# Altium footprint library FP-SMD-Semiconductors.PcbLib: 47 footprints (part 2 of 3)
Each footprint in its own frame and in the unit in brackets; x right, y up, seen from the top. Pads: shape width x height; smd on the part's side, far side on the other; paste and mask are expansions set on the pad; w line width, h text height; cw(c..) or ccw(c..) is an arc to the next point about the centre after c.
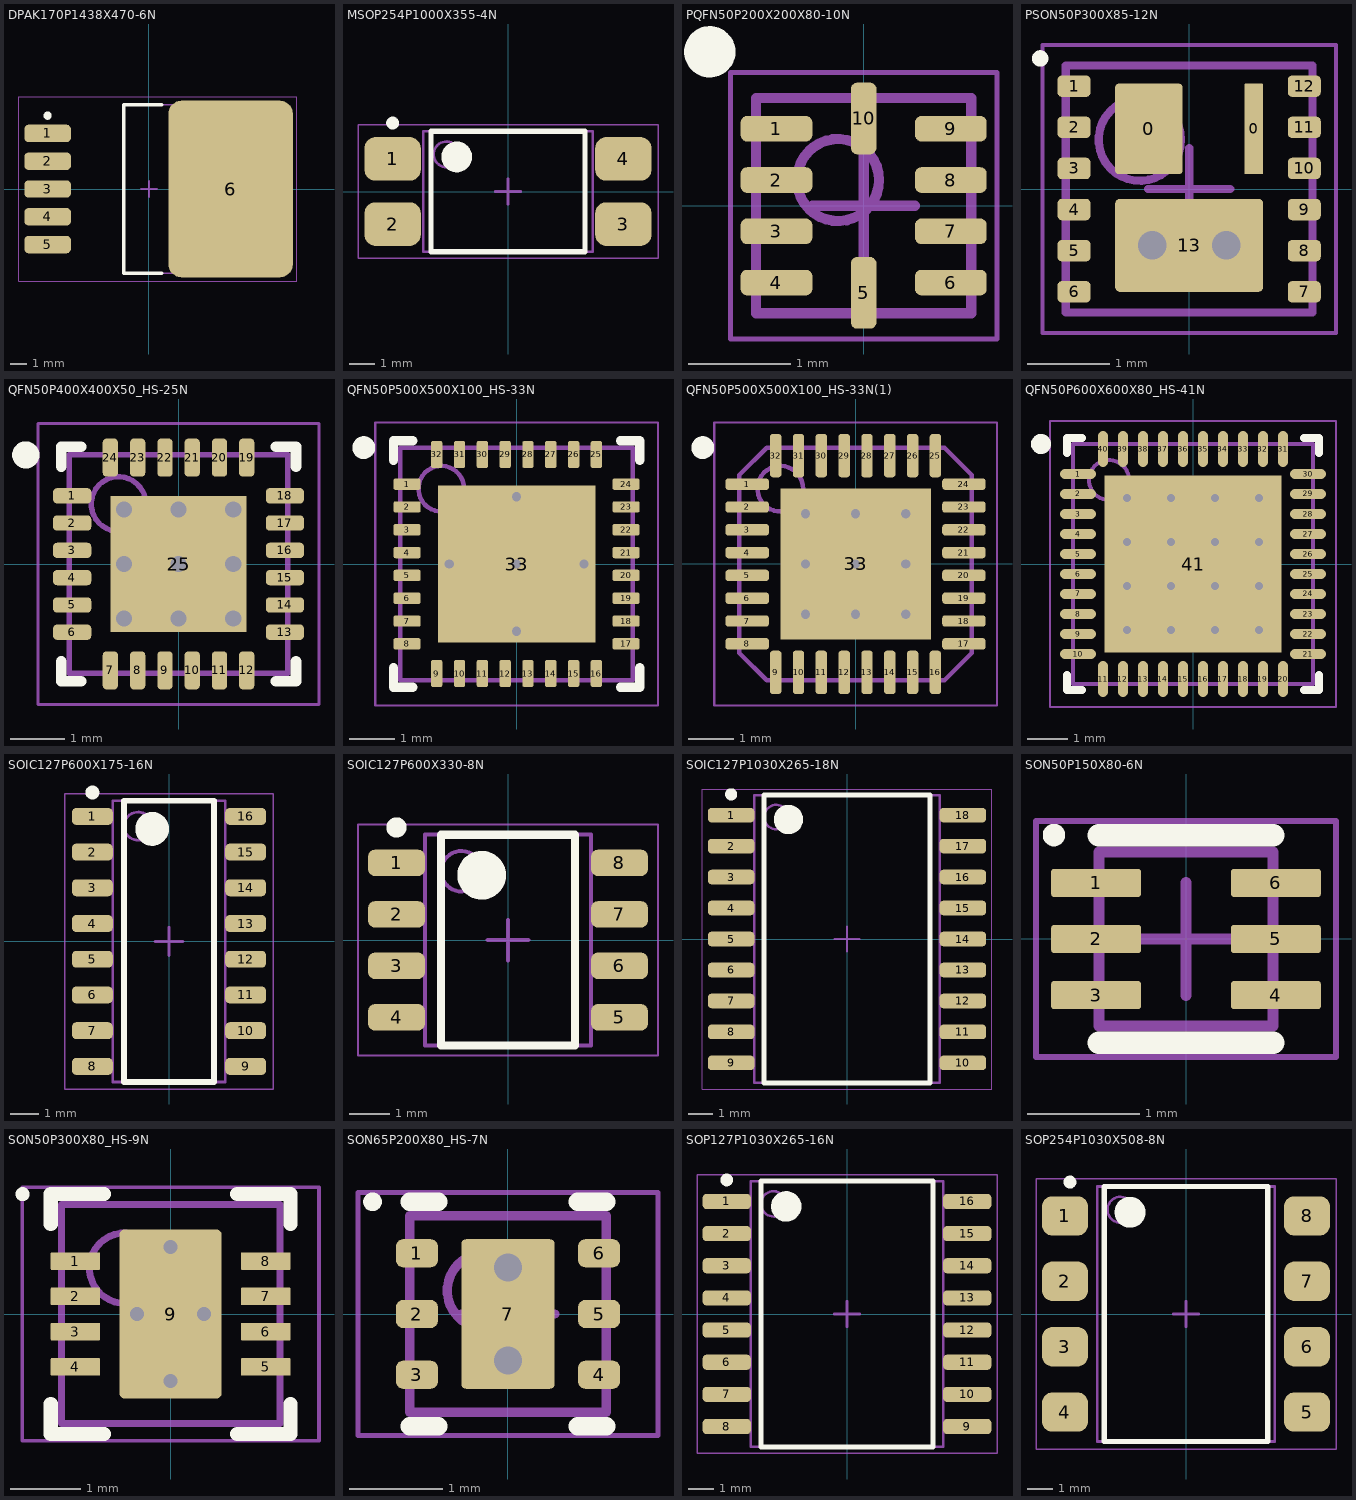
[diagram p1: the footprints below, top view; thin cyan lines are the x and y axes]

## DPAK170P1438X470-6N [mm] "D2-PAK, 6-Pads, Body 7/45x8/51mm (max), IPC Medium Density"
height 4.7
pads (6):
  rrect50% 2.85x1.07 smd: 1(-6.2,3.4) 2(-6.2,1.7) 3(-6.2,0) 4(-6.2,-1.7) 5(-6.2,-3.4)
  rrect20% 7.6x10.8 smd: 6(5,0)
Top Overlay:
  circle w0.25: c-6.2,4.485 r0.125
  lines w0.2: 0.8,-5.15 -1.55,-5.15 -1.55,5.15 0.8,5.15
Top Assembly:
  lines w0.1: -1.55,-5.15 7.15,-5.15 7.15,5.15 -1.55,5.15 -1.55,-5.15
  text "'.Designator'" at 0.254,0.762 h1.52
Top Courtyard:
  lines w0.05: -7.95,-5.65 9.05,-5.65 9.05,5.65 -7.95,5.65 -7.95,-5.65
  lines w0.1: -0.5,0 0.5,0 ; 0,-0.5 0,0.5
3D body "TO263-5-1.STEP": height 4.22, standoff 0, extent -6.901,-4.912 7.701,4.91

## MSOP254P1000X355-4N [mm] "SOP, 4-Leads, Body 4/58x6/50mm, Pitch 2/54mm, IPC Medium Density"
height 3.55
pads (4):
  rrect50% 2.2x1.7 smd: 1(-4.5,1.27) 2(-4.5,-1.27) 3(4.5,-1.27) 4(4.5,1.27)
Top Overlay:
  circle w0.25: c-4.5,2.67 r0.125
  circle w0.6: c-2,1.35 r0.3
  lines w0.2: -3,-2.35 -3,2.35 3,2.35 3,-2.35 -3,-2.35
Top Assembly:
  circle w0.1: c-2.4,1.45 r0.5
  lines w0.1: -3.3,-2.35 -3.3,2.35 3.3,2.35 3.3,-2.35 -3.3,-2.35
  text "'.Designator'" at 0.254,0.762 h1.52
Top Courtyard:
  lines w0.05: -5.85,-2.6 -5.85,2.6 5.85,2.6 5.85,-2.6 -5.85,-2.6
  lines w0.1: -0.5,0 0.5,0 ; 0,-0.5 0,0.5
3D body "SOP254P1000X355-4N.step": height 3.55, standoff 0, extent -5,-2.35 5,2.35

## PQFN50P200X200X80-10N [mm] "PQFN, 10-Leads, Body 2/00x2/00mm, Pitch 0/50mm, IPC Medium Density"
height 0.8
pads (10):
  rrect50% 0.7x0.25 smd: 1(-0.85,0.75) 2(-0.85,0.25) 3(-0.85,-0.25) 4(-0.85,-0.75) 6(0.85,-0.75) 7(0.85,-0.25) 8(0.85,0.25) 9(0.85,0.75)
  rrect50% 0.25x0.7 smd: 5(0,-0.85) 10(0,0.85)
Top Overlay:
  circle w0.25: c-1.5,1.5 r0.125
Top Assembly:
  circle w0.1: c-0.25,0.25 r0.4
  lines w0.1: -1.05,-1.05 -1.05,1.05 1.05,1.05 1.05,-1.05 -1.05,-1.05
  text "'.Designator'" at 0.254,0.762 h1.52
Top Courtyard:
  lines w0.05: -1.3,-1.3 -1.3,1.3 1.3,1.3 1.3,-1.3 -1.3,-1.3
  lines w0.1: -0.5,0 0.5,0 ; 0,-0.5 0,0.5
3D body "PQFN50P200X200X80-10N.step": height 0.8, standoff 0, extent -1.05,-1.05 1.05,1.05

## PSON50P300X85-12N [mm] "PSON, 12-Leads, Body 3/00x3/00mm, Pitch 0/50mm, IPC Medium Density"
height 0.85
pads (15):
  rrect10% 0.82x1.1 smd: 0(-0.49,0.73)
  rrect10% 0.23x1.1 smd: 0(0.785,0.73)
  rrect40% 0.4x0.26 smd: 1(-1.4,1.25) 2(-1.4,0.75) 3(-1.4,0.25) 4(-1.4,-0.25) 5(-1.4,-0.75) 6(-1.4,-1.25) 7(1.4,-1.25) 8(1.4,-0.75) 9(1.4,-0.25) 10(1.4,0.25) 11(1.4,0.75) 12(1.4,1.25)
  rrect10% 1.8x1.13 smd paste+0: 13(0,-0.685)
via 0.45,-0.685 diameter 0.5 hole 0.35
via -0.45,-0.685 diameter 0.5 hole 0.35
Top Overlay:
  circle w0.1: c-1.812,1.587 r0.05
Top Assembly:
  circle w0.1: c-0.6,0.6 r0.5
  lines w0.1: -1.5,-1.5 1.5,-1.5 1.5,1.5 -1.5,1.5 -1.5,-1.5
  text "'.Designator'" at 0.254,0.762 h1.52
Top Courtyard:
  lines w0.05: -1.785,-1.75 1.785,-1.75 1.785,1.75 -1.785,1.75 -1.785,-1.75
  lines w0.1: -0.5,0 0.5,0 ; 0,-0.5 0,0.5
3D body "PSON50P300X85-12N.step": height 0.85, standoff 0, extent -1.501,-1.5 1.501,1.5

## QFN50P400X400X50_HS-25N [mm] "QFN, 24-Leads, Body 4/00x4/00mm, Pitch 0/50mm, Thermal Pad 2/50x2/50mm, IPC Medium Density"
height 0.5
pads (25):
  rrect50% 0.7x0.28 smd: 1(-1.95,1.25) 2(-1.95,0.75) 3(-1.95,0.25) 4(-1.95,-0.25) 5(-1.95,-0.75) 6(-1.95,-1.25) 13(1.95,-1.25) 14(1.95,-0.75) 15(1.95,-0.25) 16(1.95,0.25) 17(1.95,0.75) 18(1.95,1.25)
  rrect50% 0.28x0.7 smd: 7(-1.25,-1.95) 8(-0.75,-1.95) 9(-0.25,-1.95) 10(0.25,-1.95) 11(0.75,-1.95) 12(1.25,-1.95) 19(1.25,1.95) 20(0.75,1.95) 21(0.25,1.95) 22(-0.25,1.95) 23(-0.75,1.95) 24(-1.25,1.95)
  rect 2.5x2.5 smd: 25(0,0)
via 0,0 diameter 0.5 hole 0.3
via 0,1 diameter 0.5 hole 0.3
via -1,0 diameter 0.5 hole 0.3
via 0,-1 diameter 0.5 hole 0.3
via 1,0 diameter 0.5 hole 0.3
via 1,1 diameter 0.5 hole 0.3
via -1,1 diameter 0.5 hole 0.3
via -1,-1 diameter 0.5 hole 0.3
via 1,-1 diameter 0.5 hole 0.3
Top Overlay:
  circle w0.25: c-2.8,2 r0.125
  lines w0.2: -2.15,-1.79 -2.15,-2.15 -1.79,-2.15 ; -2.15,1.79 -2.15,2.15 -1.79,2.15 ; 1.79,-2.15 2.15,-2.15 2.15,-1.79 ; 1.79,2.15 2.15,2.15 2.15,1.79
Top Assembly:
  circle w0.1: c-1.1,1.1 r0.5
  lines w0.1: -2,-2 -2,2 2,2 2,-2 -2,-2
  text "'.Designator'" at 0.254,0.762 h1.52
Top Courtyard:
  lines w0.05: -2.575,-2.575 -2.575,2.575 2.575,2.575 2.575,-2.575 -2.575,-2.575
  lines w0.1: -0.5,0 0.5,0 ; 0,-0.5 0,0.5
3D body "QFN50P400X400X50_HS-25N.step": height 0.5, standoff 0, extent -2.001,-2.001 2.001,2.001

## QFN50P500X500X100_HS-33N [mm] "QFN, 32-Leads, Body 5/00x5/00mm, Pitch 0/50mm, Thermal Pad 3/45x3/45mm, IPC Medium Density"
height 1
pads (33):
  rrect40% 0.6x0.25 smd: 1(-2.4,1.75) 2(-2.4,1.25) 3(-2.4,0.75) 4(-2.4,0.25) 5(-2.4,-0.25) 6(-2.4,-0.75) 7(-2.4,-1.25) 8(-2.4,-1.75) 17(2.4,-1.75) 18(2.4,-1.25) 19(2.4,-0.75) 20(2.4,-0.25) 21(2.4,0.25) 22(2.4,0.75) 23(2.4,1.25) 24(2.4,1.75)
  rrect40% 0.25x0.6 smd: 9(-1.75,-2.4) 10(-1.25,-2.4) 11(-0.75,-2.4) 12(-0.25,-2.4) 13(0.25,-2.4) 14(0.75,-2.4) 15(1.25,-2.4) 16(1.75,-2.4) 25(1.75,2.4) 26(1.25,2.4) 27(0.75,2.4) 28(0.25,2.4) 29(-0.25,2.4) 30(-0.75,2.4) 31(-1.25,2.4) 32(-1.75,2.4)
  rect 3.45x3.45 smd: 33(0,0)
via 0,0 diameter 0.5 hole 0.2
via 1.475,0 diameter 0.5 hole 0.2
via -1.475,0 diameter 0.5 hole 0.2
via 0,1.475 diameter 0.5 hole 0.2
via 0,-1.475 diameter 0.5 hole 0.2
Top Overlay:
  circle w0.25: c-3.35,2.55 r0.125
  lines w0.2: -2.7,-2.275 -2.7,-2.7 -2.275,-2.7 ; -2.7,2.275 -2.7,2.7 -2.275,2.7 ; 2.275,-2.7 2.7,-2.7 2.7,-2.275 ; 2.275,2.7 2.7,2.7 2.7,2.275
Top Assembly:
  circle w0.1: c-1.65,1.65 r0.5
  lines w0.1: -2.55,-2.55 -2.55,2.55 2.55,2.55 2.55,-2.55 -2.55,-2.55
  text "'.Designator'" at 0.254,0.762 h1.52
Top Courtyard:
  lines w0.05: -3.1,-3.1 -3.1,3.1 3.1,3.1 3.1,-3.1 -3.1,-3.1
  lines w0.1: -0.5,0 0.5,0 ; 0,-0.5 0,0.5
3D body "QFN50P500X500X100_HS-33N.step": height 1, standoff 0, extent -2.551,-2.551 2.551,2.551

## QFN50P500X500X100_HS-33N(1) [mm] "QFN, 32-Leads, Body 5/00x5/00mm, Pitch 0/50mm, Thermal Pad 3/30x3/30mm, IPC Medium Density"
height 1
pads (33):
  rrect50% 0.95x0.25 smd: 1(-2.375,1.75) 2(-2.375,1.25) 3(-2.375,0.75) 4(-2.375,0.25) 5(-2.375,-0.25) 6(-2.375,-0.75) 7(-2.375,-1.25) 8(-2.375,-1.75) 17(2.375,-1.75) 18(2.375,-1.25) 19(2.375,-0.75) 20(2.375,-0.25) 21(2.375,0.25) 22(2.375,0.75) 23(2.375,1.25) 24(2.375,1.75)
  rrect50% 0.25x0.95 smd: 9(-1.75,-2.375) 10(-1.25,-2.375) 11(-0.75,-2.375) 12(-0.25,-2.375) 13(0.25,-2.375) 14(0.75,-2.375) 15(1.25,-2.375) 16(1.75,-2.375) 25(1.75,2.375) 26(1.25,2.375) 27(0.75,2.375) 28(0.25,2.375) 29(-0.25,2.375) 30(-0.75,2.375) 31(-1.25,2.375) 32(-1.75,2.375)
  rect 3.3x3.3 smd: 33(0,0)
via -1.1,1.1 diameter 0.5 hole 0.2
via 0,1.1 diameter 0.5 hole 0.2
via 1.1,1.1 diameter 0.5 hole 0.2
via -1.1,0 diameter 0.5 hole 0.2
via 0,0 diameter 0.5 hole 0.2
via 1.1,0 diameter 0.5 hole 0.2
via -1.1,-1.1 diameter 0.5 hole 0.2
via 0,-1.1 diameter 0.5 hole 0.2
via 1.1,-1.1 diameter 0.5 hole 0.2
Top Overlay:
  circle w0.25: c-3.35,2.55 r0.125
Top Assembly:
  circle w0.1: c-1.65,1.65 r0.5
  lines w0.1: -2.55,-1.95 -1.95,-2.55 1.95,-2.55 2.55,-1.95 2.55,1.95 1.95,2.55 -1.95,2.55 -2.55,1.95 -2.55,-1.95
  text "'.Designator'" at 0.254,0.762 h1.52
Top Courtyard:
  lines w0.05: -3.1,-3.1 -3.1,3.1 3.1,3.1 3.1,-3.1 -3.1,-3.1
  lines w0.1: -0.5,0 0.5,0 ; 0,-0.5 0,0.5
3D body "QFN50P500X500X100_HS-33N.step": height 1, standoff 0, extent -2.551,-2.551 2.551,2.551

## QFN50P600X600X80_HS-41N [mm] "QFN, 40-Leads, Body 6/00x6/00mm, Pitch 0/50mm, Thermal Pad 4/42x4/42mm, IPC Medium Density"
height 0.8
pads (41):
  oval 0.9x0.25 smd: 1(-2.875,2.25) 2(-2.875,1.75) 3(-2.875,1.25) 4(-2.875,0.75) 5(-2.875,0.25) 6(-2.875,-0.25) 7(-2.875,-0.75) 8(-2.875,-1.25) 9(-2.875,-1.75) 10(-2.875,-2.25) 21(2.875,-2.25) 22(2.875,-1.75) 23(2.875,-1.25) 24(2.875,-0.75) 25(2.875,-0.25) 26(2.875,0.25) 27(2.875,0.75) 28(2.875,1.25) 29(2.875,1.75) 30(2.875,2.25)
  oval 0.25x0.9 smd: 11(-2.25,-2.875) 12(-1.75,-2.875) 13(-1.25,-2.875) 14(-0.75,-2.875) 15(-0.25,-2.875) 16(0.25,-2.875) 17(0.75,-2.875) 18(1.25,-2.875) 19(1.75,-2.875) 20(2.25,-2.875) 31(2.25,2.875) 32(1.75,2.875) 33(1.25,2.875) 34(0.75,2.875) 35(0.25,2.875) 36(-0.25,2.875) 37(-0.75,2.875) 38(-1.25,2.875) 39(-1.75,2.875) 40(-2.25,2.875)
  rect 4.42x4.42 smd: 41(0,0)
via 1.65,-1.65 diameter 0.5 hole 0.2
via 0.55,-1.65 diameter 0.5 hole 0.2
via -0.55,-1.65 diameter 0.5 hole 0.2
via -1.65,-1.65 diameter 0.5 hole 0.2
via 1.65,-0.55 diameter 0.5 hole 0.2
via 0.55,-0.55 diameter 0.5 hole 0.2
via -0.55,-0.55 diameter 0.5 hole 0.2
via -1.65,-0.55 diameter 0.5 hole 0.2
via 1.65,0.55 diameter 0.5 hole 0.2
via 0.55,0.55 diameter 0.5 hole 0.2
via -0.55,0.55 diameter 0.5 hole 0.2
via -1.65,0.55 diameter 0.5 hole 0.2
via 1.65,1.65 diameter 0.5 hole 0.2
via 0.55,1.65 diameter 0.5 hole 0.2
via -0.55,1.65 diameter 0.5 hole 0.2
via -1.65,1.65 diameter 0.5 hole 0.2
Top Overlay:
  circle w0.25: c-3.8,3 r0.125
  lines w0.2: -3.15,-2.775 -3.15,-3.15 -2.775,-3.15 ; -3.15,2.775 -3.15,3.15 -2.775,3.15 ; 2.775,-3.15 3.15,-3.15 3.15,-2.775 ; 2.775,3.15 3.15,3.15 3.15,2.775
Top Assembly:
  circle w0.1: c-2.1,2.1 r0.5
  lines w0.1: -3,-3 3,-3 3,3 -3,3 -3,-3
  text "'.Designator'" at 0.254,0.762 h1.52
Top Courtyard:
  lines w0.05: -3.575,-3.575 3.575,-3.575 3.575,3.575 -3.575,3.575 -3.575,-3.575
  lines w0.1: -0.5,0 0.5,0 ; 0,-0.5 0,0.5
3D body "QFN50P600X600X80_HS-41N.step": height 0.8, standoff 0, extent -3.001,-3.001 3.001,3.001

## SOIC127P600X175-16N [mm] "SOIC, 16-Leads, Body 9/90x3/90mm, Pitch 1/27mm, IPC Medium Density"
height 1.75
pads (16):
  rrect50% 1.45x0.6 smd: 1(-2.725,4.445) 2(-2.725,3.175) 3(-2.725,1.905) 4(-2.725,0.635) 5(-2.725,-0.635) 6(-2.725,-1.905) 7(-2.725,-3.175) 8(-2.725,-4.445) 9(2.725,-4.445) 10(2.725,-3.175) 11(2.725,-1.905) 12(2.725,-0.635) 13(2.725,0.635) 14(2.725,1.905) 15(2.725,3.175) 16(2.725,4.445)
Top Overlay:
  circle w0.6: c-0.6,4 r0.3
  circle w0.25: c-2.725,5.295 r0.125
  lines w0.2: -1.6,-5 1.6,-5 1.6,5 -1.6,5 -1.6,-5
Top Assembly:
  circle w0.1: c-1.1,4.1 r0.5
  lines w0.1: -2,-5 2,-5 2,5 -2,5 -2,-5
  text "'.Designator'" at 0.254,0.762 h1.52
Top Courtyard:
  lines w0.05: -3.7,-5.25 3.7,-5.25 3.7,5.25 -3.7,5.25 -3.7,-5.25
  lines w0.1: -0.5,0 0.5,0 ; 0,-0.5 0,0.5
3D body "SOIC127P600X175-16N.step": height 1.75, standoff 0, extent -3,-5 3,5

## SOIC127P600X330-8N [mm] "SOIC, 8-Leads, Body 5/14x3/94mm, Pitch 1/27mm, IPC Medium Density"
height 3.3
pads (8):
  rrect50% 1.4x0.65 smd: 1(-2.75,1.905) 2(-2.75,0.635) 3(-2.75,-0.635) 4(-2.75,-1.905) 5(2.75,-1.905) 6(2.75,-0.635) 7(2.75,0.635) 8(2.75,1.905)
Top Overlay:
  circle w0.25: c-2.75,2.78 r0.125
  circle w0.6: c-0.65,1.6 r0.3
  lines w0.2: -1.65,-2.6 -1.65,2.6 1.65,2.6 1.65,-2.6 -1.65,-2.6
Top Assembly:
  circle w0.1: c-1.15,1.7 r0.5
  lines w0.1: -2.05,-2.6 -2.05,2.6 2.05,2.6 2.05,-2.6 -2.05,-2.6
  text "'.Designator'" at 0.254,0.762 h1.52
Top Courtyard:
  lines w0.05: -3.7,-2.85 -3.7,2.85 3.7,2.85 3.7,-2.85 -3.7,-2.85
  lines w0.1: -0.5,0 0.5,0 ; 0,-0.5 0,0.5
3D body "SOIC127P600X330-8N.step": height 3.3, standoff 0, extent -2.997,-2.6 2.997,2.6

## SOIC127P1030X265-18N [mm] "SOIC, 18-Leads, Body 11/55x7/50mm, Pitch 1/27mm, IPC Medium Density"
height 2.65
pads (18):
  rrect50% 1.9x0.6 smd: 1(-4.75,5.08) 2(-4.75,3.81) 3(-4.75,2.54) 4(-4.75,1.27) 5(-4.75,0) 6(-4.75,-1.27) 7(-4.75,-2.54) 8(-4.75,-3.81) 9(-4.75,-5.08) 10(4.75,-5.08) 11(4.75,-3.81) 12(4.75,-2.54) 13(4.75,-1.27) 14(4.75,0) 15(4.75,1.27) 16(4.75,2.54) 17(4.75,3.81) 18(4.75,5.08)
Top Overlay:
  circle w0.25: c-4.75,5.93 r0.125
  circle w0.6: c-2.4,4.9 r0.3
  lines w0.2: -3.4,-5.9 -3.4,5.9 3.4,5.9 3.4,-5.9 -3.4,-5.9
Top Assembly:
  circle w0.1: c-2.9,5 r0.5
  lines w0.1: -3.8,-5.9 -3.8,5.9 3.8,5.9 3.8,-5.9 -3.8,-5.9
  text "'.Designator'" at 0.254,0.762 h1.52
Top Courtyard:
  lines w0.05: -5.925,-6.15 -5.925,6.15 5.925,6.15 5.925,-6.15 -5.925,-6.15
  lines w0.1: -0.5,0 0.5,0 ; 0,-0.5 0,0.5
3D body "SOIC127P1030X265-18N.step": height 2.65, standoff 0, extent -5.15,-5.9 5.15,5.9

## SON50P150X80-6N [mm] "SON, 6-Leads, Body 1/50x1/50mm, Pitch 0/50mm, IPC Medium Density"
height 0.8
pads (6):
  rrect20% 0.8x0.25 smd: 1(-0.8,0.5) 2(-0.8,0) 3(-0.8,-0.5) 4(0.8,-0.5) 5(0.8,0) 6(0.8,0.5)
Top Overlay:
  circle w0.1: c-1.175,0.925 r0.05
  lines w0.2: -0.775,-0.925 0.775,-0.925 ; -0.775,0.925 0.775,0.925
Top Assembly:
  lines w0.1: -0.775,-0.775 -0.775,0.775 0.775,0.775 0.775,-0.775 -0.775,-0.775
  text "'.Designator'" at 0.254,0.762 h1.52
Top Courtyard:
  lines w0.05: -1.335,-1.05 -1.335,1.05 1.335,1.05 1.335,-1.05 -1.335,-1.05
  lines w0.1: -0.5,0 0.5,0 ; 0,-0.5 0,0.5
3D body "SON50P150X80-6N.step": height 0.8, standoff 0, extent -0.825,-0.775 0.825,0.775

## SON50P300X80_HS-9N [mm] "SON, 8-Leads, Body 3/00x3/00mm, Pitch 0/50mm, Thermal Pad 2/06x2/06mm, IPC Medium Density"
height 0.8
pads (9):
  rrect10% 0.7x0.25 smd: 1(-1.35,0.75) 2(-1.35,0.25) 3(-1.35,-0.25) 4(-1.35,-0.75) 5(1.35,-0.75) 6(1.35,-0.25) 7(1.35,0.25) 8(1.35,0.75)
  rrect10% 1.45x2.4 smd: 9(0,0)
via -0.475,0 diameter 0.4 hole 0.2
via 0.475,0 diameter 0.4 hole 0.2
via 0,-0.95 diameter 0.4 hole 0.2
via 0,0.95 diameter 0.4 hole 0.2
Top Overlay:
  circle w0.1: c-2.1,1.7 r0.05
  lines w0.2: -1.7,-1.275 -1.7,-1.7 -0.945,-1.7 ; -1.7,1.275 -1.7,1.7 -0.945,1.7 ; 0.945,-1.7 1.7,-1.7 1.7,-1.275 ; 0.945,1.7 1.7,1.7 1.7,1.275
Top Assembly:
  circle w0.1: c-0.65,0.65 r0.5
  lines w0.1: -1.55,-1.55 1.55,-1.55 1.55,1.55 -1.55,1.55 -1.55,-1.55
  text "'.Designator'" at 0.254,0.762 h1.52
Top Courtyard:
  lines w0.05: -2.105,-1.8 2.105,-1.8 2.105,1.8 -2.105,1.8 -2.105,-1.8
  lines w0.1: -0.5,0 0.5,0 ; 0,-0.5 0,0.5
3D body "SON50P300X80_HS-9N.step": height 0.8, standoff 0, extent -1.551,-1.55 1.551,1.55

## SON65P200X80_HS-7N [mm] "SON, 6-Leads, Body 2/00x2/00mm, Pitch 0/65mm, Thermal Pad 2/06x2/06mm, IPC Medium Density"
height 0.8
pads (7):
  rrect50% 0.45x0.3 smd: 1(-0.975,0.65) 2(-0.975,0) 3(-0.975,-0.65) 4(0.975,-0.65) 5(0.975,0) 6(0.975,0.65)
  rrect10% 1x1.6 smd: 7(0,0)
via 0,-0.5 diameter 0.5 hole 0.3
via 0,0.5 diameter 0.5 hole 0.3
Top Overlay:
  circle w0.1: c-1.45,1.2 r0.05
  lines w0.2: -1.05,-1.2 -0.745,-1.2 ; -1.05,1.2 -0.745,1.2 ; 0.745,-1.2 1.05,-1.2 ; 0.745,1.2 1.05,1.2
Top Assembly:
  circle w0.1: c-0.25,0.25 r0.4
  lines w0.1: -1.05,-1.05 1.05,-1.05 1.05,1.05 -1.05,1.05 -1.05,-1.05
  text "'.Designator'" at 0.254,0.762 h1.52
Top Courtyard:
  lines w0.05: -1.605,-1.3 1.605,-1.3 1.605,1.3 -1.605,1.3 -1.605,-1.3
  lines w0.1: -0.5,0 0.5,0 ; 0,-0.5 0,0.5
3D body "SON65P200X80_HS-7N.step": height 0.8, standoff 0, extent -1.1,-1.05 1.1,1.05

## SOP127P1030X265-16N [mm] "SOP, 16-Leads, Body 10/30x7/50mm, Pitch 1/27mm, IPC Medium Density"
height 2.65
pads (16):
  rrect50% 1.9x0.6 smd: 1(-4.75,4.445) 2(-4.75,3.175) 3(-4.75,1.905) 4(-4.75,0.635) 5(-4.75,-0.635) 6(-4.75,-1.905) 7(-4.75,-3.175) 8(-4.75,-4.445) 9(4.75,-4.445) 10(4.75,-3.175) 11(4.75,-1.905) 12(4.75,-0.635) 13(4.75,0.635) 14(4.75,1.905) 15(4.75,3.175) 16(4.75,4.445)
Top Overlay:
  circle w0.25: c-4.75,5.295 r0.125
  circle w0.6: c-2.4,4.25 r0.3
  lines w0.2: -3.4,-5.25 -3.4,5.25 3.4,5.25 3.4,-5.25 -3.4,-5.25
Top Assembly:
  circle w0.1: c-2.9,4.35 r0.5
  lines w0.1: -3.8,-5.25 -3.8,5.25 3.8,5.25 3.8,-5.25 -3.8,-5.25
  text "'.Designator'" at 0.254,0.762 h1.52
Top Courtyard:
  lines w0.05: -5.925,-5.5 -5.925,5.5 5.925,5.5 5.925,-5.5 -5.925,-5.5
  lines w0.1: -0.5,0 0.5,0 ; 0,-0.5 0,0.5
3D body "SOP127P1030X265-16N.step": height 2.65, standoff 0, extent -5.162,-5.25 5.162,5.25

## SOP254P1030X508-8N [mm] "SOP, 8-Leads, Body 9/66x6/61mm, Pitch 2/54mm, IPC Medium Density"
height 5.08
pads (8):
  rrect50% 1.78x1.525 smd: 1(-4.699,3.81) 2(-4.699,1.27) 3(-4.699,-1.27) 4(-4.699,-3.81) 5(4.699,-3.81) 6(4.699,-1.27) 7(4.699,1.27) 8(4.699,3.81)
Top Overlay:
  circle w0.25: c-4.507,5.122 r0.125
  circle w0.6: c-2.175,3.95 r0.3
  lines w0.2: -3.175,-4.95 -3.175,4.95 3.175,4.95 3.175,-4.95 -3.175,-4.95
Top Assembly:
  circle w0.1: c-2.55,4.05 r0.5
  lines w0.1: -3.45,-4.95 -3.45,4.95 3.45,4.95 3.45,-4.95 -3.45,-4.95
  text "'.Designator'" at 0.254,0.762 h1.52
Top Courtyard:
  lines w0.05: -5.825,-5.25 -5.825,5.25 5.825,5.25 5.825,-5.25 -5.825,-5.25
  lines w0.1: -0.5,0 0.5,0 ; 0,-0.5 0,0.5
3D body "SMD DIP 8 (op7) vishay.STEP": height 4.3, standoff 0.05, extent -5.025,-4.875 5.025,4.875